# Altium schematic symbol library 40_Pin_Connector.SchLib: 1 symbol
Pins are listed as number, name and electrical type; pins without a type are passive.

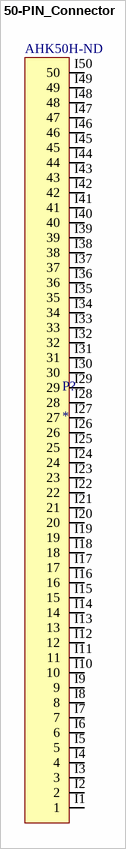
[diagram p0: symbol 50-PIN_Connector]

## 50-PIN_Connector
designator P?  Supplier Part Number 1: AHK50H-ND
TE_CONN_VERT_50-PIN; Supplier 1: Digi-Key
pins: I1 1, I2 2, I3 3, I4 4, I5 5, I6 6, I7 7, I8 8, I9 9, I10 10, I11 11, I12 12, I13 13, I14 14, I15 15, I16 16, I17 17, I18 18, I19 19, I20 20, I21 21, I22 22, I23 23, I24 24, I25 25, I26 26, I27 27, I28 28, I29 29, I30 30, I31 31, I32 32, I33 33, I34 34, I35 35, I36 36, I37 37, I38 38, I39 39, I40 40, I41 41, I42 42, I43 43, I44 44, I45 45, I46 46, I47 47, I48 48, I49 49, I50 50